# EAGLE library part TEXAS_INSTRUMENTS-STEPPER_DRIVER-DRV8412DDW (library Module_ICs)
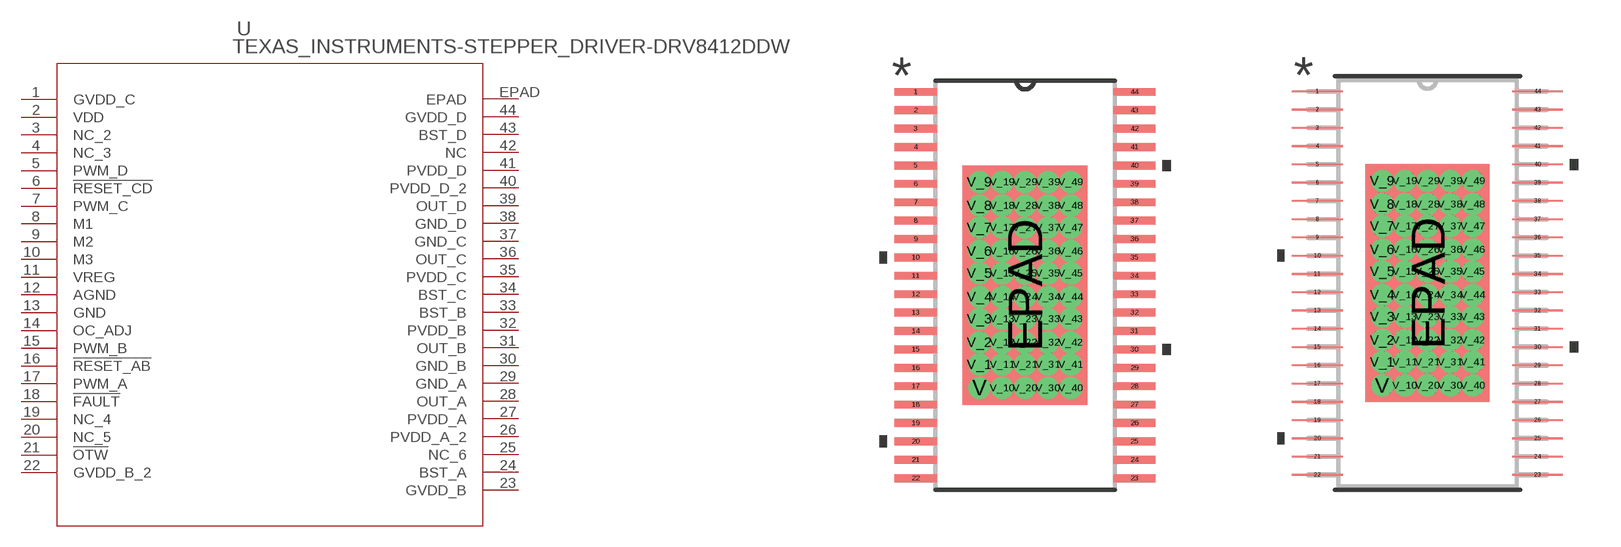
[diagram p61: symbol with the pads of DDW44_8P26X4P31; footprints DDW44_8P26X4P31, DDW44_8P26X4P31-M]

Designator prefix U

## TEXAS_INSTRUMENTS-STEPPER_DRIVER-DRV8412DDW (DATASHEET_URL: http://www.ti.com/lit/gpn/DRV8412; DESCRIPTION: 6A Dual Brushed DC or Single Bipolar Stepper Motor Driver (PWM Ctrl); FAMILY_NAME: STEPPER DRIVER; GENERIC_PART_NUMBER: DRV8412; INDUSTRY_STD_PKG_TYPE: HTSSOP; MANUFACTURER: Texas Instruments; MANUFACTURER_PART_NUMBER: DRV8412DDW; PACKAGE_DESIGNATOR: DDW; PIN_COUNT: 44; VENDOR: Texas Instruments)  [DDW44_8P26X4P31]
1  GVDD_C  pwr
2  VDD  pwr
3  NC_2  pas
4  NC_3  pas
5  PWM_D  in
6  !RESET_CD  in
7  PWM_C  in
8  M1  in
9  M2  in
10  M3  in
11  VREG  pwr
12  AGND  pwr
13  GND  pwr
14  OC_ADJ  out
15  PWM_B  in
16  !RESET_AB  in
17  PWM_A  in
18  !FAULT  out
19  NC_4  pas
20  NC_5  pas
21  !OTW  out
22  GVDD_B_2  pwr
23  GVDD_B  pwr
24  BST_A  pwr
25  NC_6  pas
26  PVDD_A_2  pwr
27  PVDD_A  pwr
28  OUT_A  out
29  GND_A  pwr
30  GND_B  pwr
31  OUT_B  out
32  PVDD_B  pwr
33  BST_B  pwr
34  BST_C  pwr
35  PVDD_C  pwr
36  OUT_C  out
37  GND_C  pwr
38  GND_D  pwr
39  OUT_D  out
40  PVDD_D_2  pwr
41  PVDD_D  pwr
42  NC  pas
43  BST_D  pwr
44  GVDD_D  pwr
EPAD  EPAD  pas

## TEXAS_INSTRUMENTS-STEPPER_DRIVER-DRV8412DDWDDW44_8P26X4P31-M (DATASHEET_URL: http://www.ti.com/lit/gpn/DRV8412; DESCRIPTION: 6A Dual Brushed DC or Single Bipolar Stepper Motor Driver (PWM Ctrl); FAMILY_NAME: STEPPER DRIVER; GENERIC_PART_NUMBER: DRV8412; INDUSTRY_STD_PKG_TYPE: HTSSOP; MANUFACTURER: Texas Instruments; MANUFACTURER_PART_NUMBER: DRV8412DDW; PACKAGE_DESIGNATOR: DDW; PIN_COUNT: 44; VENDOR: Texas Instruments)  [DDW44_8P26X4P31-M]
Pads as for DDW44_8P26X4P31

## TEXAS_INSTRUMENTS-STEPPER_DRIVER-DRV8412DDWDDW44_8P26X4P31-L (DATASHEET_URL: http://www.ti.com/lit/gpn/DRV8412; DESCRIPTION: 6A Dual Brushed DC or Single Bipolar Stepper Motor Driver (PWM Ctrl); FAMILY_NAME: STEPPER DRIVER; GENERIC_PART_NUMBER: DRV8412; INDUSTRY_STD_PKG_TYPE: HTSSOP; MANUFACTURER: Texas Instruments; MANUFACTURER_PART_NUMBER: DRV8412DDW; PACKAGE_DESIGNATOR: DDW; PIN_COUNT: 44; VENDOR: Texas Instruments)  [DDW44_8P26X4P31-L]
Pads as for DDW44_8P26X4P31

## Footprint DDW44_8P26X4P31 (pad centres in mm)
smd 1.461 x 0.27: 1 -3.775,6.668; 2 -3.775,6.032; 3 -3.775,5.397; 4 -3.775,4.763; 5 -3.775,4.128; 6 -3.775,3.493; 7 -3.775,2.857; 8 -3.775,2.223; 9 -3.775,1.587; 10 -3.775,0.953; 11 -3.775,0.318; 12 -3.775,-0.318; 13 -3.775,-0.953; 14 -3.775,-1.587; 15 -3.775,-2.223; 16 -3.775,-2.857; 17 -3.775,-3.493; 18 -3.775,-4.128; 19 -3.775,-4.763; 20 -3.775,-5.397; 21 -3.775,-6.032; 22 -3.775,-6.668; 23 3.775,-6.668; 24 3.775,-6.032; 25 3.775,-5.397; 26 3.775,-4.763; 27 3.775,-4.128; 28 3.775,-3.493; 29 3.775,-2.857; 30 3.775,-2.223; 31 3.775,-1.587; 32 3.775,-0.953; 33 3.775,-0.318; 34 3.775,0.318; 35 3.775,0.953; 36 3.775,1.587; 37 3.775,2.223; 38 3.775,2.857; 39 3.775,3.493; 40 3.775,4.128; 41 3.775,4.763; 42 3.775,5.397; 43 3.775,6.032; 44 3.775,6.668
smd 4.31 x 8.26: EPAD 0,0
drill 0.254 pad 0.508: V -1.575,-3.556; V_1 -1.575,-2.743; V_2 -1.575,-1.981; V_3 -1.575,-1.168; V_4 -1.575,-0.406; V_5 -1.575,0.406; V_6 -1.575,1.168; V_7 -1.575,1.981; V_8 -1.575,2.743; V_9 -1.575,3.556; V_10 -0.787,-3.556; V_11 -0.787,-2.743; V_12 -0.787,-1.981; V_13 -0.787,-1.168; V_14 -0.787,-0.406; V_15 -0.787,0.406; V_16 -0.787,1.168; V_17 -0.787,1.981; V_18 -0.787,2.743; V_19 -0.787,3.556; V_20 0,-3.556; V_21 0,-2.743; V_22 0,-1.981; V_23 0,-1.168; V_24 0,-0.406; V_25 0,0.406; V_26 0,1.168; V_27 0,1.981; V_28 0,2.743; V_29 0,3.556; V_30 0.787,-3.556; V_31 0.787,-2.743; V_32 0.787,-1.981; V_33 0.787,-1.168; V_34 0.787,-0.406; V_35 0.787,0.406; V_36 0.787,1.168; V_37 0.787,1.981; V_38 0.787,2.743; V_39 0.787,3.556; V_40 1.575,-3.556; V_41 1.575,-2.743; V_42 1.575,-1.981; V_43 1.575,-1.168; V_44 1.575,-0.406; V_45 1.575,0.406; V_46 1.575,1.168; V_47 1.575,1.981; V_48 1.575,2.743; V_49 1.575,3.556

## Footprint DDW44_8P26X4P31-M (pad centres in mm)
smd 1.766 x 0.058: 1 -3.826,6.668; 2 -3.826,6.032; 3 -3.826,5.397; 4 -3.826,4.763; 5 -3.826,4.128; 6 -3.826,3.493; 7 -3.826,2.857; 8 -3.826,2.223; 9 -3.826,1.587; 10 -3.826,0.953; 11 -3.826,0.318; 12 -3.826,-0.318; 13 -3.826,-0.953; 14 -3.826,-1.587; 15 -3.826,-2.223; 16 -3.826,-2.857; 17 -3.826,-3.493; 18 -3.826,-4.128; 19 -3.826,-4.763; 20 -3.826,-5.397; 21 -3.826,-6.032; 22 -3.826,-6.668; 23 3.826,-6.668; 24 3.826,-6.032; 25 3.826,-5.397; 26 3.826,-4.763; 27 3.826,-4.128; 28 3.826,-3.493; 29 3.826,-2.857; 30 3.826,-2.223; 31 3.826,-1.587; 32 3.826,-0.953; 33 3.826,-0.318; 34 3.826,0.318; 35 3.826,0.953; 36 3.826,1.587; 37 3.826,2.223; 38 3.826,2.857; 39 3.826,3.493; 40 3.826,4.128; 41 3.826,4.763; 42 3.826,5.397; 43 3.826,6.032; 44 3.826,6.668
smd 4.31 x 8.26: EPAD 0,0
drill 0.254 pad 0.508: V -1.575,-3.556; V_1 -1.575,-2.743; V_2 -1.575,-1.981; V_3 -1.575,-1.168; V_4 -1.575,-0.406; V_5 -1.575,0.406; V_6 -1.575,1.168; V_7 -1.575,1.981; V_8 -1.575,2.743; V_9 -1.575,3.556; V_10 -0.787,-3.556; V_11 -0.787,-2.743; V_12 -0.787,-1.981; V_13 -0.787,-1.168; V_14 -0.787,-0.406; V_15 -0.787,0.406; V_16 -0.787,1.168; V_17 -0.787,1.981; V_18 -0.787,2.743; V_19 -0.787,3.556; V_20 0,-3.556; V_21 0,-2.743; V_22 0,-1.981; V_23 0,-1.168; V_24 0,-0.406; V_25 0,0.406; V_26 0,1.168; V_27 0,1.981; V_28 0,2.743; V_29 0,3.556; V_30 0.787,-3.556; V_31 0.787,-2.743; V_32 0.787,-1.981; V_33 0.787,-1.168; V_34 0.787,-0.406; V_35 0.787,0.406; V_36 0.787,1.168; V_37 0.787,1.981; V_38 0.787,2.743; V_39 0.787,3.556; V_40 1.575,-3.556; V_41 1.575,-2.743; V_42 1.575,-1.981; V_43 1.575,-1.168; V_44 1.575,-0.406; V_45 1.575,0.406; V_46 1.575,1.168; V_47 1.575,1.981; V_48 1.575,2.743; V_49 1.575,3.556

## Footprint DDW44_8P26X4P31-L (pad centres in mm)
smd 1.156 x 0.007: 1 -3.724,6.668; 2 -3.724,6.032; 3 -3.724,5.397; 4 -3.724,4.763; 5 -3.724,4.128; 6 -3.724,3.493; 7 -3.724,2.857; 8 -3.724,2.223; 9 -3.724,1.587; 10 -3.724,0.953; 11 -3.724,0.318; 12 -3.724,-0.318; 13 -3.724,-0.953; 14 -3.724,-1.587; 15 -3.724,-2.223; 16 -3.724,-2.857; 17 -3.724,-3.493; 18 -3.724,-4.128; 19 -3.724,-4.763; 20 -3.724,-5.397; 21 -3.724,-6.032; 22 -3.724,-6.668; 23 3.724,-6.668; 24 3.724,-6.032; 25 3.724,-5.397; 26 3.724,-4.763; 27 3.724,-4.128; 28 3.724,-3.493; 29 3.724,-2.857; 30 3.724,-2.223; 31 3.724,-1.587; 32 3.724,-0.953; 33 3.724,-0.318; 34 3.724,0.318; 35 3.724,0.953; 36 3.724,1.587; 37 3.724,2.223; 38 3.724,2.857; 39 3.724,3.493; 40 3.724,4.128; 41 3.724,4.763; 42 3.724,5.397; 43 3.724,6.032; 44 3.724,6.668
smd 4.31 x 8.26: EPAD 0,0
drill 0.254 pad 0.508: V -1.575,-3.556; V_1 -1.575,-2.743; V_2 -1.575,-1.981; V_3 -1.575,-1.168; V_4 -1.575,-0.406; V_5 -1.575,0.406; V_6 -1.575,1.168; V_7 -1.575,1.981; V_8 -1.575,2.743; V_9 -1.575,3.556; V_10 -0.787,-3.556; V_11 -0.787,-2.743; V_12 -0.787,-1.981; V_13 -0.787,-1.168; V_14 -0.787,-0.406; V_15 -0.787,0.406; V_16 -0.787,1.168; V_17 -0.787,1.981; V_18 -0.787,2.743; V_19 -0.787,3.556; V_20 0,-3.556; V_21 0,-2.743; V_22 0,-1.981; V_23 0,-1.168; V_24 0,-0.406; V_25 0,0.406; V_26 0,1.168; V_27 0,1.981; V_28 0,2.743; V_29 0,3.556; V_30 0.787,-3.556; V_31 0.787,-2.743; V_32 0.787,-1.981; V_33 0.787,-1.168; V_34 0.787,-0.406; V_35 0.787,0.406; V_36 0.787,1.168; V_37 0.787,1.981; V_38 0.787,2.743; V_39 0.787,3.556; V_40 1.575,-3.556; V_41 1.575,-2.743; V_42 1.575,-1.981; V_43 1.575,-1.168; V_44 1.575,-0.406; V_45 1.575,0.406; V_46 1.575,1.168; V_47 1.575,1.981; V_48 1.575,2.743; V_49 1.575,3.556